# Altium integrated library PIC16F15225_I_MG.IntLib: 1 symbol
Pins are listed as number, name and electrical type; pins without a type are passive.

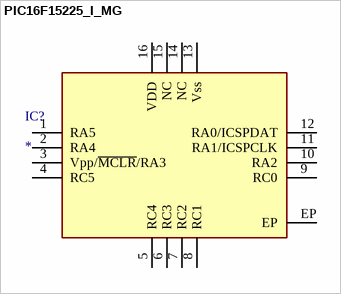
[diagram p0: symbol PIC16F15225_I_MG]

## PIC16F15225_I_MG
designator IC?
Integrated Circuit; Manufacturer_Name: Microchip; Manufacturer_Part_Number: PIC16F15313T-I/RF; Datasheet Link: http://www.microchip.com/mymicrochip/filehandler.aspx?ddocname=en597669; Height: 0.55mm; Arrow Part Number: PIC16F15313T-I/RF; Arrow Price/Stock: https://www.arrow.com/en/products/pic16f15313t-irf/microchip-technology; Mouser Part Number: 579-PIC16F15313TI/RF; Mouser Price/Stock: https://www.mouser.co.uk/ProductDetail/Microchip-Technology/PIC16F15313T-I-RF?qs=Mv7BduZupUgofv2n07LaEw%3D%3D
footprint 16-Lead Very Thin Plastic Quad Flat, No Lead Package (RDB) - 3x3x0.9 mm Body [VQFN]
pins: 1 RA5, 2 RA4, 3 Vpp/~{MCLR}/RA3, 4 RC5, 5 RC4, 6 RC3, 7 RC2, 8 RC1, 9 RC0, 10 RA2, 11 RA1/ICSPCLK, 12 RA0/ICSPDAT, 13 Vss, 14 NC, 15 NC, 16 VDD, EP